# EAGLE library part NTGD1100LT1G (library PDUv2)
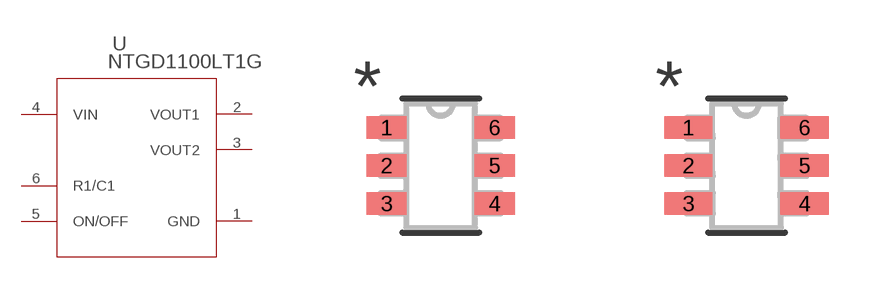
[diagram p16: symbol with the pads of TSOP6_1P70X3P10_ONS; footprints TSOP6_1P70X3P10_ONS, TSOP6_1P70X3P10_ONS-M]

Designator prefix U

## NTGD1100LT1G (COPYRIGHT: Copyright (C) 2016 Accelerated Designs. All rights reserved; MANUFACTURER_PART_NUMBER: NTGD1100LT1G; SOURCELIBRARY: ONSemi_2017-12-12_5; VENDOR: ON Semiconductor)  [TSOP6_1P70X3P10_ONS]
1  GND  pas
2  VOUT1  pas
3  VOUT2  pas
4  VIN  pas
5  ON/OFF  pas
6  R1/C1  pas

## NTGD1100LT1GTSOP6_1P70X3P10_ONS-M (COPYRIGHT: Copyright (C) 2016 Accelerated Designs. All rights reserved; MANUFACTURER_PART_NUMBER: NTGD1100LT1G; SOURCELIBRARY: ONSemi_2017-12-12_5; VENDOR: ON Semiconductor)  [TSOP6_1P70X3P10_ONS-M]
Pads as for TSOP6_1P70X3P10_ONS

## NTGD1100LT1GTSOP6_1P70X3P10_ONS-L (COPYRIGHT: Copyright (C) 2016 Accelerated Designs. All rights reserved; MANUFACTURER_PART_NUMBER: NTGD1100LT1G; SOURCELIBRARY: ONSemi_2017-12-12_5; VENDOR: ON Semiconductor)  [TSOP6_1P70X3P10_ONS-L]
Pads as for TSOP6_1P70X3P10_ONS

## Footprint TSOP6_1P70X3P10_ONS (pad centres in mm)
smd 1.003 x 0.559: 1 -1.353,0.95; 2 -1.353,0; 3 -1.353,-0.95; 4 1.353,-0.95; 5 1.353,0; 6 1.353,0.95

## Footprint TSOP6_1P70X3P10_ONS-M (pad centres in mm)
smd 1.206 x 0.559: 1 -1.454,0.95; 2 -1.454,0; 3 -1.454,-0.95; 4 1.454,-0.95; 5 1.454,0; 6 1.454,0.95

## Footprint TSOP6_1P70X3P10_ONS-L (pad centres in mm)
smd 0.8 x 0.508: 1 -1.251,0.95; 2 -1.251,0; 3 -1.251,-0.95; 4 1.251,-0.95; 5 1.251,0; 6 1.251,0.95